# Altium footprint library footprint_hall_crossboard_1_1_library.PcbLib: 95 footprints (part 4 of 7)
Each footprint in its own frame and in the unit in brackets; x right, y up, seen from the top. Pads: shape width x height; smd on the part's side, far side on the other; paste and mask are expansions set on the pad; w line width, h text height; cw(c..) or ccw(c..) is an arc to the next point about the centre after c.
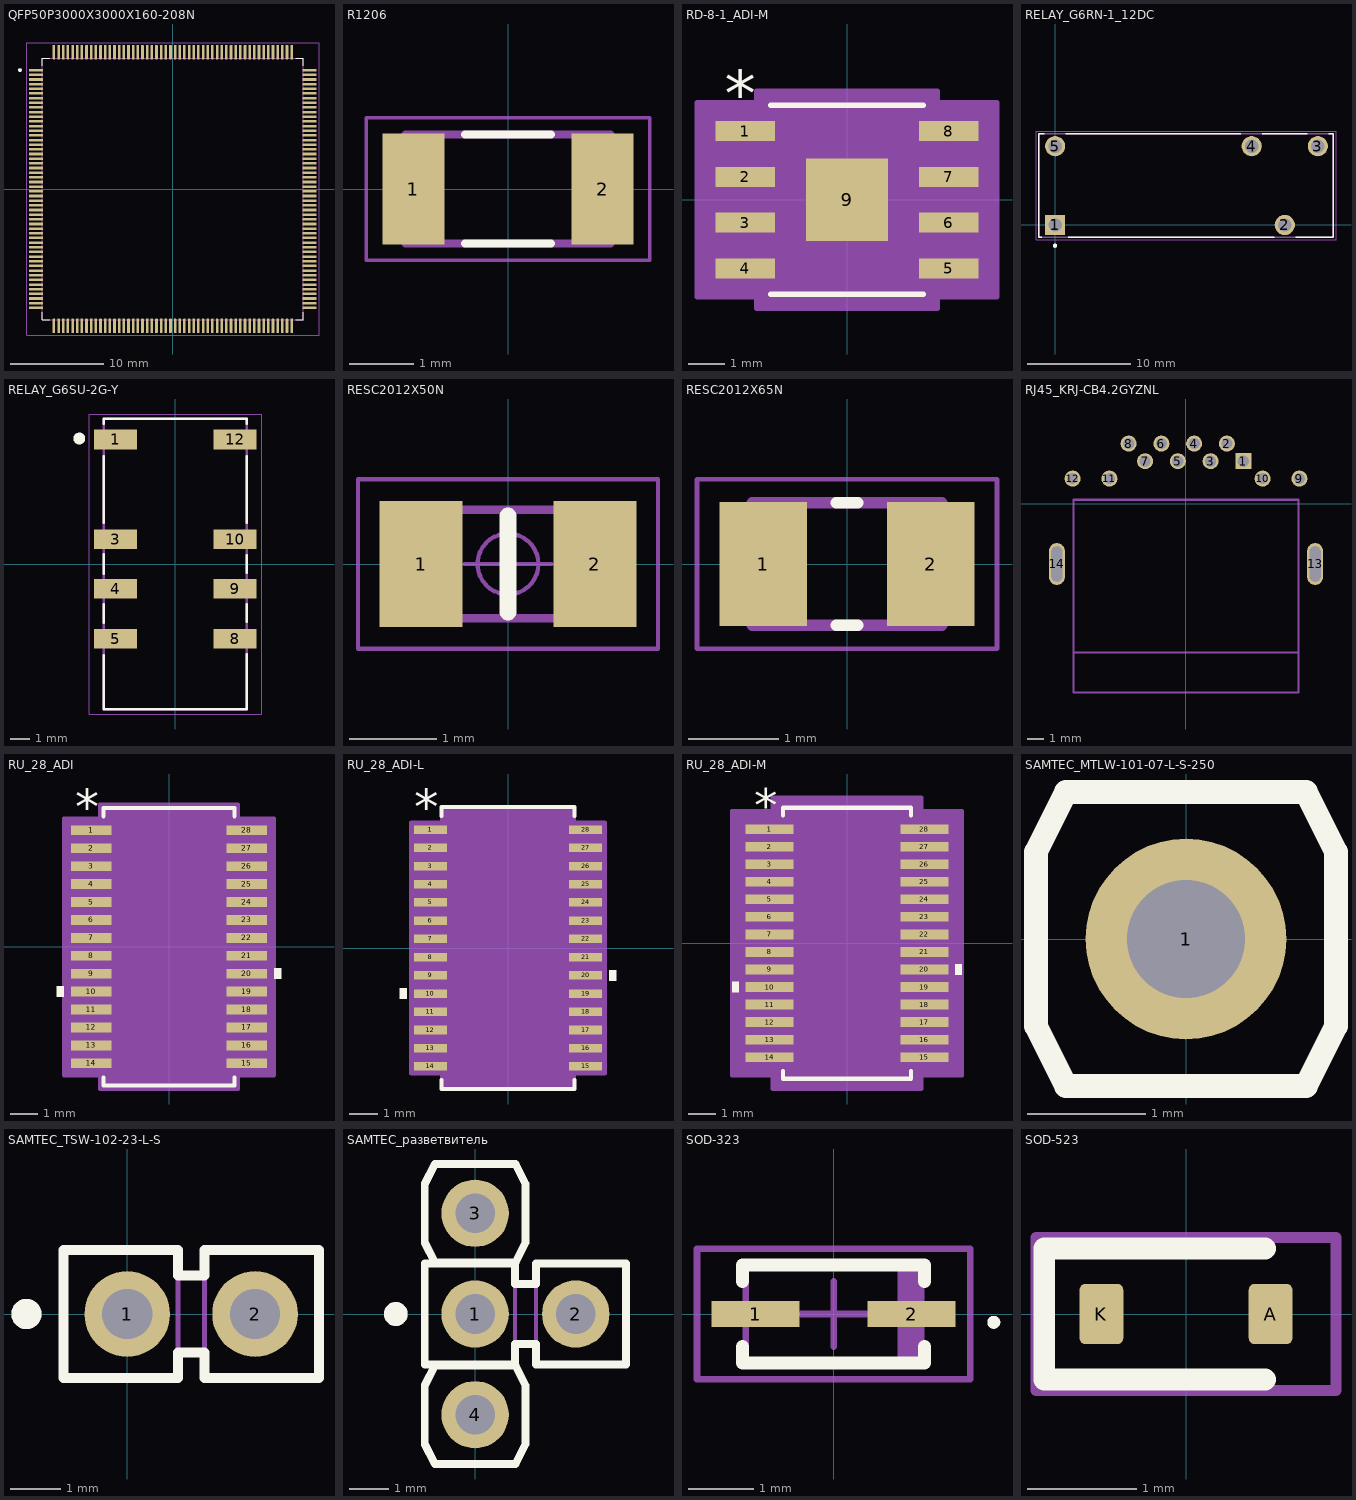
[diagram p3: the footprints below, top view; thin cyan lines are the x and y axes]

## QFP50P3000X3000X160-208N [mm]
pads (208):
  rrect25% 1.52x0.28 smd: 1(-14.675,12.75) 2(-14.675,12.25) 3(-14.675,11.75) 4(-14.675,11.25) 5(-14.675,10.75) 6(-14.675,10.25) 7(-14.675,9.75) 8(-14.675,9.25) 9(-14.675,8.75) 10(-14.675,8.25) 11(-14.675,7.75) 12(-14.675,7.25) 13(-14.675,6.75) 14(-14.675,6.25) 15(-14.675,5.75) 16(-14.675,5.25) 17(-14.675,4.75) 18(-14.675,4.25) 19(-14.675,3.75) 20(-14.675,3.25) 21(-14.675,2.75) 22(-14.675,2.25) 23(-14.675,1.75) 24(-14.675,1.25) 25(-14.675,0.75) 26(-14.675,0.25) 27(-14.675,-0.25) 28(-14.675,-0.75) 29(-14.675,-1.25) 30(-14.675,-1.75) 31(-14.675,-2.25) 32(-14.675,-2.75) 33(-14.675,-3.25) 34(-14.675,-3.75) 35(-14.675,-4.25) 36(-14.675,-4.75) 37(-14.675,-5.25) 38(-14.675,-5.75) 39(-14.675,-6.25) 40(-14.675,-6.75) 41(-14.675,-7.25) 42(-14.675,-7.75) 43(-14.675,-8.25) 44(-14.675,-8.75) 45(-14.675,-9.25) 46(-14.675,-9.75) 47(-14.675,-10.25) 48(-14.675,-10.75) 49(-14.675,-11.25) 50(-14.675,-11.75) 51(-14.675,-12.25) 52(-14.675,-12.75) 105(14.675,-12.75) 106(14.675,-12.25) 107(14.675,-11.75) 108(14.675,-11.25) 109(14.675,-10.75) 110(14.675,-10.25) 111(14.675,-9.75) 112(14.675,-9.25) 113(14.675,-8.75) 114(14.675,-8.25) 115(14.675,-7.75) 116(14.675,-7.25) 117(14.675,-6.75) 118(14.675,-6.25) 119(14.675,-5.75) 120(14.675,-5.25) 121(14.675,-4.75) 122(14.675,-4.25) 123(14.675,-3.75) 124(14.675,-3.25) 125(14.675,-2.75) 126(14.675,-2.25) 127(14.675,-1.75) 128(14.675,-1.25) 129(14.675,-0.75) 130(14.675,-0.25) 131(14.675,0.25) 132(14.675,0.75) 133(14.675,1.25) 134(14.675,1.75) 135(14.675,2.25) 136(14.675,2.75) 137(14.675,3.25) 138(14.675,3.75) 139(14.675,4.25) 140(14.675,4.75) 141(14.675,5.25) 142(14.675,5.75) 143(14.675,6.25) 144(14.675,6.75) 145(14.675,7.25) 146(14.675,7.75) 147(14.675,8.25) 148(14.675,8.75) 149(14.675,9.25) 150(14.675,9.75) 151(14.675,10.25) 152(14.675,10.75) 153(14.675,11.25) 154(14.675,11.75) 155(14.675,12.25) 156(14.675,12.75)
  rrect25% 0.28x1.52 smd: 53(-12.75,-14.675) 54(-12.25,-14.675) 55(-11.75,-14.675) 56(-11.25,-14.675) 57(-10.75,-14.675) 58(-10.25,-14.675) 59(-9.75,-14.675) 60(-9.25,-14.675) 61(-8.75,-14.675) 62(-8.25,-14.675) 63(-7.75,-14.675) 64(-7.25,-14.675) 65(-6.75,-14.675) 66(-6.25,-14.675) 67(-5.75,-14.675) 68(-5.25,-14.675) 69(-4.75,-14.675) 70(-4.25,-14.675) 71(-3.75,-14.675) 72(-3.25,-14.675) 73(-2.75,-14.675) 74(-2.25,-14.675) 75(-1.75,-14.675) 76(-1.25,-14.675) 77(-0.75,-14.675) 78(-0.25,-14.675) 79(0.25,-14.675) 80(0.75,-14.675) 81(1.25,-14.675) 82(1.75,-14.675) 83(2.25,-14.675) 84(2.75,-14.675) 85(3.25,-14.675) 86(3.75,-14.675) 87(4.25,-14.675) 88(4.75,-14.675) 89(5.25,-14.675) 90(5.75,-14.675) 91(6.25,-14.675) 92(6.75,-14.675) 93(7.25,-14.675) 94(7.75,-14.675) 95(8.25,-14.675) 96(8.75,-14.675) 97(9.25,-14.675) 98(9.75,-14.675) 99(10.25,-14.675) 100(10.75,-14.675) 101(11.25,-14.675) 102(11.75,-14.675) 103(12.25,-14.675) 104(12.75,-14.675) 157(12.75,14.675) 158(12.25,14.675) 159(11.75,14.675) 160(11.25,14.675) 161(10.75,14.675) 162(10.25,14.675) 163(9.75,14.675) 164(9.25,14.675) 165(8.75,14.675) 166(8.25,14.675) 167(7.75,14.675) 168(7.25,14.675) 169(6.75,14.675) 170(6.25,14.675) 171(5.75,14.675) 172(5.25,14.675) 173(4.75,14.675) 174(4.25,14.675) 175(3.75,14.675) 176(3.25,14.675) 177(2.75,14.675) 178(2.25,14.675) 179(1.75,14.675) 180(1.25,14.675) 181(0.75,14.675) 182(0.25,14.675) 183(-0.25,14.675) 184(-0.75,14.675) 185(-1.25,14.675) 186(-1.75,14.675) 187(-2.25,14.675) 188(-2.75,14.675) 189(-3.25,14.675) 190(-3.75,14.675) 191(-4.25,14.675) 192(-4.75,14.675) 193(-5.25,14.675) 194(-5.75,14.675) 195(-6.25,14.675) 196(-6.75,14.675) 197(-7.25,14.675) 198(-7.75,14.675) 199(-8.25,14.675) 200(-8.75,14.675) 201(-9.25,14.675) 202(-9.75,14.675) 203(-10.25,14.675) 204(-10.75,14.675) 205(-11.25,14.675) 206(-11.75,14.675) 207(-12.25,14.675) 208(-12.75,14.675)
Top Overlay:
  circle w0.2: c-16.395,12.75 r0.1
  lines w0.127: -14,-13.21 -14,-14 -13.21,-14 ; -14,13.21 -14,14 -13.21,14 ; 13.21,-14 14,-14 14,-13.21 ; 13.21,14 14,14 14,13.21
Mechanical 13:
  circle w0.2: c-16.395,12.75 r0.1
  lines w0.127: -14,-14 -14,14 14,14 14,-14 -14,-14
Mechanical 15:
  lines w0.05: -15.685,-15.685 -15.685,15.685 15.685,15.685 15.685,-15.685 -15.685,-15.685
3D body "step_temp.STEP": height 1.6, standoff 0, extent -15,-15 15,15

## R1206 [mm]
pads (2):
  rect 0.97x1.73 smd: 1(-1.48,0) 2(1.48,0)
Top Overlay:
  lines w0.127: -0.67,-0.85 0.67,-0.85 ; -0.67,0.85 0.67,0.85
Mechanical 13:
  lines w0.127: -1.6,-0.85 1.6,-0.85 1.6,0.85 -1.6,0.85 -1.6,-0.85
Mechanical 15:
  lines w0.05: -2.215,-1.115 2.215,-1.115 2.215,1.115 -2.215,1.115 -2.215,-1.115
3D body "step_temp.STEP": height 0.75, standoff 0, extent -1.55,-0.8 1.55,0.8

## RD-8-1_ADI-M [mil]
pads (9):
  rect 65.5x22 smd paste+0 mask+0: 1(-111.25,75) 2(-111.25,25) 3(-111.25,-25) 4(-111.25,-75) 5(111.25,-75) 6(111.25,-25) 7(111.25,25) 8(111.25,75)
  rect 90x90 smd paste+0 mask+0: 9(0,0)
Top Overlay:
  lines w6: -83.5,-103.5 83.5,-103.5 ; -83.5,103.5 83.5,103.5
  text "*" at -133.75,92 h50
Mechanical 13:
  lines w0: -12,98.5 ccw(c0,98.5) 12,98.5
  lines w1: -122,-85 -122,-65 -78.5,-65 -78.5,-85 -122,-85 ; -122,-35 -122,-15 -78.5,-15 -78.5,-35 -122,-35 ; -122,15 -122,35 -78.5,35 -78.5,15 -122,15 ; -122,65 -122,85 -78.5,85 -78.5,65 -122,65 ; -78.5,-98.5 78.5,-98.5 78.5,98.5 -78.5,98.5 -78.5,-98.5 ; 78.5,-85 78.5,-65 122,-65 122,-85 78.5,-85 ; 78.5,-35 78.5,-15 122,-15 122,-35 78.5,-35 ; 78.5,15 78.5,35 122,35 122,15 78.5,15 ; 78.5,65 78.5,85 122,85 122,65 78.5,65
  text "*" at -76,45.5 h50
Mechanical 15:
  region: -98.5,-106 -164,-106 -164,106 -98.5,106 -98.5,118.5 98.5,118.5 98.5,106 164,106 164,-106 98.5,-106 98.5,-118.5 -98.5,-118.5
  lines w6: -164,-106 -164,106 -98.5,106 -98.5,118.5 98.5,118.5 98.5,106 164,106 164,-106 98.5,-106 98.5,-118.5 -98.5,-118.5 -98.5,-106 -164,-106
3D body "RD-8-1_ADI.step": height 69.09, standoff 0, extent -122.01,-98.5 122.01,98.5

## RELAY_G6RN-1_12DC [mm]
pads (5):
  rect 1.95x1.95 hole 1.3: 1(0,0)
  round 1.95 hole 1.3: 2(22.2,0) 3(25.4,7.62) 4(19,7.62) 5(0,7.62)
Top Overlay:
  circle w0.2: c0,-2 r0.1
  lines w0.127: -1.288,-1.19 -1.6,-1.19 -1.6,8.81 -1.038,8.81 ; 1.038,8.81 17.962,8.81 ; 1.288,-1.19 21.161,-1.19 ; 20.038,8.81 24.362,8.81 ; 23.239,-1.19 26.9,-1.19 26.9,8.81 26.438,8.81
Mechanical 13:
  circle w0.2: c0,-2 r0.1
  lines w0.127: -1.6,-1.19 26.9,-1.19 26.9,8.81 -1.6,8.81 -1.6,-1.19
Mechanical 15:
  lines w0.05: -1.85,-1.44 27.15,-1.44 27.15,9.06 -1.85,9.06 -1.85,-1.44

## RELAY_G6SU-2G-Y [mm]
pads (8):
  rect 2.2x1 smd: 1(-3.05,6.35) 3(-3.05,1.27) 4(-3.05,-1.27) 5(-3.05,-3.81) 8(3.05,-3.81) 9(3.05,-1.27) 10(3.05,1.27) 12(3.05,6.35)
Top Overlay:
  circle w0.3: c-4.9,6.4 r0.15
  lines w0.127: -3.65,-4.65 -3.65,-7.4 3.65,-7.4 3.65,-4.6 ; -3.65,-3 -3.65,-2.05 ; -3.65,-0.5 -3.65,0.5 ; -3.65,2.1 -3.65,5.5 ; -3.65,7.15 -3.65,7.4 3.65,7.4 3.65,7.15 ; 3.65,-2.95 3.65,-2.05 ; 3.65,-0.45 3.65,0.45 ; 3.65,2.1 3.65,5.5
Mechanical 13:
  circle w0.3: c-2.667,6.35 r0.15
  lines w0.127: -3.65,-7.4 3.65,-7.4 3.65,7.4 -3.65,7.4 -3.65,-7.4
Mechanical 15:
  lines w0.05: -4.4,-7.65 4.4,-7.65 4.4,7.65 -4.4,7.65 -4.4,-7.65

## RESC2012X50N [mm] "Chip Resistor, EIA 0805, Metric 2012, Body 2.0x1.25mm, IPC Medium Density"
height 0.5
pads (2):
  rect 0.95x1.45 smd: 1(-1,0) 2(1,0)
Top Overlay:
  lines w0.2: 0,-0.55 0,0.55
Mechanical 14:
  lines w0.1: -1.025,-0.625 -1.025,0.625 1.025,0.625 1.025,-0.625 -1.025,-0.625
Mechanical 15:
  circle w0.05: c0,0 r0.35
  lines w0.05: -0.5,0 0.5,0 ; 0,-0.5 0,0.5 ; -1.725,-0.975 -1.725,0.975 1.725,0.975 1.725,-0.975 -1.725,-0.975
3D body "RESC2012X50N.stp": height 0.5, standoff 0, extent -1.1,-0.675 1.1,0.675

## RESC2012X65N [mm]
pads (2):
  rect 0.97x1.38 smd: 1(-0.93,0) 2(0.93,0)
Top Overlay:
  lines w0.127: -0.12,-0.68 0.12,-0.68 ; -0.12,0.68 0.12,0.68
Mechanical 13:
  lines w0.127: -1.05,-0.68 1.05,-0.68 1.05,0.68 -1.05,0.68 -1.05,-0.68
Mechanical 15:
  lines w0.05: -1.665,-0.94 1.665,-0.94 1.665,0.94 -1.665,0.94 -1.665,-0.94

## RJ45_KRJ-CB4.2GYZNL [mm] "RJ45  connector, right angle"
height 1
pads (14):
  rect 1x1 hole 0.7: 1(3.57,2.65)
  round 1 hole 0.7: 2(2.55,3.75) 3(1.53,2.65) 4(0.51,3.75) 5(-0.51,2.65) 6(-1.53,3.75) 7(-2.55,2.65) 8(-3.57,3.75) 9(7.06,1.57) 10(4.77,1.57) 11(-4.77,1.57) 12(-7.06,1.57)
  oval 1x2.6 hole 0.7 slot 2.2 at 90 deg: 13(8.04,-3.75) 14(-8.04,-3.75)
Mechanical 1:
  lines w0.127: -7,-9.25 7,-9.25 ; -7,-11.75 -7,0.25 7,0.25 7,-11.75 -7,-11.75
3D body: height 4.2, standoff -4.2, extent -7,-9.25 7,0.25
3D body: height 6.8, standoff 0, extent -8.103,-9.25 8.077,3.465
3D body: height 6.8, standoff -4.2, extent -8.103,-11.75 8.077,-9.25

## RU_28_ADI [mil]
pads (28):
  rect 58x14 smd paste+0 mask+0: 1(-111,166.34) 2(-111,140.75) 3(-111,115.16) 4(-111,89.57) 5(-111,63.98) 6(-111,38.39) 7(-111,12.8) 8(-111,-12.8) 9(-111,-38.39) 10(-111,-63.98) 11(-111,-89.57) 12(-111,-115.16) 13(-111,-140.75) 14(-111,-166.34) 15(111,-166.34) 16(111,-140.75) 17(111,-115.16) 18(111,-89.57) 19(111,-63.98) 20(111,-38.39) 21(111,-12.8) 22(111,12.8) 23(111,38.39) 24(111,63.98) 25(111,89.57) 26(111,115.16) 27(111,140.75) 28(111,166.34)
Top Overlay:
  region: -150,-56.48 -160,-56.48 -160,-71.48 -150,-71.48
  region: 150,-30.89 160,-30.89 160,-45.89 150,-45.89
  lines w6: -93.5,-186.44 -93.5,-198 93.5,-198 93.5,-186.44 ; -93.5,186.44 -93.5,198 93.5,198 93.5,186.44
  text "*" at -133.5,175.34 h50
Mechanical 13:
  lines w0: -12,193 ccw(c0,193) 12,193
  lines w1: -126,-172.34 -126,-160.34 -88.5,-160.34 -88.5,-172.34 -126,-172.34 ; -126,-146.75 -126,-134.75 -88.5,-134.75 -88.5,-146.75 -126,-146.75 ; -126,-121.16 -126,-109.16 -88.5,-109.16 -88.5,-121.16 -126,-121.16 ; -126,-95.57 -126,-83.57 -88.5,-83.57 -88.5,-95.57 -126,-95.57 ; -126,-69.98 -126,-57.98 -88.5,-57.98 -88.5,-69.98 -126,-69.98 ; -126,-44.39 -126,-32.39 -88.5,-32.39 -88.5,-44.39 -126,-44.39 ; -126,-18.8 -126,-6.8 -88.5,-6.8 -88.5,-18.8 -126,-18.8 ; -126,6.8 -126,18.8 -88.5,18.8 -88.5,6.8 -126,6.8 ; -126,32.39 -126,44.39 -88.5,44.39 -88.5,32.39 -126,32.39 ; -126,57.98 -126,69.98 -88.5,69.98 -88.5,57.98 -126,57.98 ; -126,83.57 -126,95.57 -88.5,95.57 -88.5,83.57 -126,83.57 ; -126,109.16 -126,121.16 -88.5,121.16 -88.5,109.16 -126,109.16 ; -126,134.75 -126,146.75 -88.5,146.75 -88.5,134.75 -126,134.75 ; -126,160.34 -126,172.34 -88.5,172.34 -88.5,160.34 -126,160.34 ; -88.5,-193 88.5,-193 88.5,193 -88.5,193 -88.5,-193 ; 88.5,-172.34 88.5,-160.34 126,-160.34 126,-172.34 88.5,-172.34 ; 88.5,-146.75 88.5,-134.75 126,-134.75 126,-146.75 88.5,-146.75 ; 88.5,-121.16 88.5,-109.16 126,-109.16 126,-121.16 88.5,-121.16 ; 88.5,-95.57 88.5,-83.57 126,-83.57 126,-95.57 88.5,-95.57 ; 88.5,-69.98 88.5,-57.98 126,-57.98 126,-69.98 88.5,-69.98 ; 88.5,-44.39 88.5,-32.39 126,-32.39 126,-44.39 88.5,-44.39 ; 88.5,-18.8 88.5,-6.8 126,-6.8 126,-18.8 88.5,-18.8 ; 88.5,6.8 88.5,18.8 126,18.8 126,6.8 88.5,6.8 ; 88.5,32.39 88.5,44.39 126,44.39 126,32.39 88.5,32.39 ; 88.5,57.98 88.5,69.98 126,69.98 126,57.98 88.5,57.98 ; 88.5,83.57 88.5,95.57 126,95.57 126,83.57 88.5,83.57 ; 88.5,109.16 88.5,121.16 126,121.16 126,109.16 88.5,109.16 ; 88.5,134.75 88.5,146.75 126,146.75 126,134.75 88.5,134.75 ; 88.5,160.34 88.5,172.34 126,172.34 126,160.34 88.5,160.34
  text "*" at -86,140 h50
Mechanical 15:
  region: -98.5,-183.34 -150,-183.34 -150,183.34 -98.5,183.34 -98.5,203 98.5,203 98.5,183.34 150,183.34 150,-183.34 98.5,-183.34 98.5,-203 -98.5,-203
  lines w6: -150,-183.34 -150,183.34 -98.5,183.34 -98.5,203 98.5,203 98.5,183.34 150,183.34 150,-183.34 98.5,-183.34 98.5,-203 -98.5,-203 -98.5,-183.34 -150,-183.34
3D body "RU_28_ADI.step": height 47.09, standoff 0, extent -125.98,-192.99 125.98,192.99

## RU_28_ADI-L [mil]
pads (28):
  rect 46x12 smd paste+0 mask+0: 1(-109,166.34) 2(-109,140.75) 3(-109,115.16) 4(-109,89.57) 5(-109,63.98) 6(-109,38.39) 7(-109,12.8) 8(-109,-12.8) 9(-109,-38.39) 10(-109,-63.98) 11(-109,-89.57) 12(-109,-115.16) 13(-109,-140.75) 14(-109,-166.34) 15(109,-166.34) 16(109,-140.75) 17(109,-115.16) 18(109,-89.57) 19(109,-63.98) 20(109,-38.39) 21(109,-12.8) 22(109,12.8) 23(109,38.39) 24(109,63.98) 25(109,89.57) 26(109,115.16) 27(109,140.75) 28(109,166.34)
Top Overlay:
  region: 142,-30.89 152,-30.89 152,-45.89 142,-45.89
  region: -142,-56.48 -152,-56.48 -152,-71.48 -142,-71.48
  lines w6: -93.5,-185.44 -93.5,-198 93.5,-198 93.5,-185.44 ; -93.5,185.44 -93.5,198 93.5,198 93.5,185.44
  text "*" at -131.5,173.34 h50
Mechanical 13:
  lines w0: -12,193 ccw(c0,193) 12,193
  lines w1: -126,-172.34 -88.5,-172.34 -88.5,-160.34 -126,-160.34 -126,-172.34 ; -126,-146.75 -88.5,-146.75 -88.5,-134.75 -126,-134.75 -126,-146.75 ; -126,-121.16 -88.5,-121.16 -88.5,-109.16 -126,-109.16 -126,-121.16 ; -126,-95.57 -88.5,-95.57 -88.5,-83.57 -126,-83.57 -126,-95.57 ; -126,-69.98 -88.5,-69.98 -88.5,-57.98 -126,-57.98 -126,-69.98 ; -126,-44.39 -88.5,-44.39 -88.5,-32.39 -126,-32.39 -126,-44.39 ; -126,-18.8 -88.5,-18.8 -88.5,-6.8 -126,-6.8 -126,-18.8 ; -126,6.8 -88.5,6.8 -88.5,18.8 -126,18.8 -126,6.8 ; -126,32.39 -88.5,32.39 -88.5,44.39 -126,44.39 -126,32.39 ; -126,57.98 -88.5,57.98 -88.5,69.98 -126,69.98 -126,57.98 ; -126,83.57 -88.5,83.57 -88.5,95.57 -126,95.57 -126,83.57 ; -126,109.16 -88.5,109.16 -88.5,121.16 -126,121.16 -126,109.16 ; -126,134.75 -88.5,134.75 -88.5,146.75 -126,146.75 -126,134.75 ; -126,160.34 -88.5,160.34 -88.5,172.34 -126,172.34 -126,160.34 ; -88.5,-193 -88.5,193 88.5,193 88.5,-193 -88.5,-193 ; 88.5,-172.34 126,-172.34 126,-160.34 88.5,-160.34 88.5,-172.34 ; 88.5,-146.75 126,-146.75 126,-134.75 88.5,-134.75 88.5,-146.75 ; 88.5,-121.16 126,-121.16 126,-109.16 88.5,-109.16 88.5,-121.16 ; 88.5,-95.57 126,-95.57 126,-83.57 88.5,-83.57 88.5,-95.57 ; 88.5,-69.98 126,-69.98 126,-57.98 88.5,-57.98 88.5,-69.98 ; 88.5,-44.39 126,-44.39 126,-32.39 88.5,-32.39 88.5,-44.39 ; 88.5,-18.8 126,-18.8 126,-6.8 88.5,-6.8 88.5,-18.8 ; 88.5,6.8 126,6.8 126,18.8 88.5,18.8 88.5,6.8 ; 88.5,32.39 126,32.39 126,44.39 88.5,44.39 88.5,32.39 ; 88.5,57.98 126,57.98 126,69.98 88.5,69.98 88.5,57.98 ; 88.5,83.57 126,83.57 126,95.57 88.5,95.57 88.5,83.57 ; 88.5,109.16 126,109.16 126,121.16 88.5,121.16 88.5,109.16 ; 88.5,134.75 126,134.75 126,146.75 88.5,146.75 88.5,134.75 ; 88.5,160.34 126,160.34 126,172.34 88.5,172.34 88.5,160.34
  text "*" at -86,140 h50
Mechanical 15:
  region: -92.5,-176.34 -136,-176.34 -136,176.34 -92.5,176.34 -92.5,197 92.5,197 92.5,176.34 136,176.34 136,-176.34 92.5,-176.34 92.5,-197 -92.5,-197
  lines w6: -136,-176.34 -92.5,-176.34 -92.5,-197 92.5,-197 92.5,-176.34 136,-176.34 136,176.34 92.5,176.34 92.5,197 -92.5,197 -92.5,176.34 -136,176.34 -136,-176.34
3D body "RU_28_ADI.step": height 47.09, standoff 0, extent -125.98,-192.99 125.98,192.99

## RU_28_ADI-M [mil]
pads (28):
  rect 70x14 smd paste+0 mask+0: 1(-113,166.34) 2(-113,140.75) 3(-113,115.16) 4(-113,89.57) 5(-113,63.98) 6(-113,38.39) 7(-113,12.8) 8(-113,-12.8) 9(-113,-38.39) 10(-113,-63.98) 11(-113,-89.57) 12(-113,-115.16) 13(-113,-140.75) 14(-113,-166.34) 15(113,-166.34) 16(113,-140.75) 17(113,-115.16) 18(113,-89.57) 19(113,-63.98) 20(113,-38.39) 21(113,-12.8) 22(113,12.8) 23(113,38.39) 24(113,63.98) 25(113,89.57) 26(113,115.16) 27(113,140.75) 28(113,166.34)
Top Overlay:
  region: 158,-30.89 168,-30.89 168,-45.89 158,-45.89
  region: -158,-56.48 -168,-56.48 -168,-71.48 -158,-71.48
  lines w6: -93.5,-186.44 -93.5,-198 93.5,-198 93.5,-186.44 ; -93.5,186.44 -93.5,198 93.5,198 93.5,186.44
  text "*" at -135.5,175.34 h50
Mechanical 13:
  lines w0: -12,193 ccw(c0,193) 12,193
  lines w1: -126,-172.34 -88.5,-172.34 -88.5,-160.34 -126,-160.34 -126,-172.34 ; -126,-146.75 -88.5,-146.75 -88.5,-134.75 -126,-134.75 -126,-146.75 ; -126,-121.16 -88.5,-121.16 -88.5,-109.16 -126,-109.16 -126,-121.16 ; -126,-95.57 -88.5,-95.57 -88.5,-83.57 -126,-83.57 -126,-95.57 ; -126,-69.98 -88.5,-69.98 -88.5,-57.98 -126,-57.98 -126,-69.98 ; -126,-44.39 -88.5,-44.39 -88.5,-32.39 -126,-32.39 -126,-44.39 ; -126,-18.8 -88.5,-18.8 -88.5,-6.8 -126,-6.8 -126,-18.8 ; -126,6.8 -88.5,6.8 -88.5,18.8 -126,18.8 -126,6.8 ; -126,32.39 -88.5,32.39 -88.5,44.39 -126,44.39 -126,32.39 ; -126,57.98 -88.5,57.98 -88.5,69.98 -126,69.98 -126,57.98 ; -126,83.57 -88.5,83.57 -88.5,95.57 -126,95.57 -126,83.57 ; -126,109.16 -88.5,109.16 -88.5,121.16 -126,121.16 -126,109.16 ; -126,134.75 -88.5,134.75 -88.5,146.75 -126,146.75 -126,134.75 ; -126,160.34 -88.5,160.34 -88.5,172.34 -126,172.34 -126,160.34 ; -88.5,-193 -88.5,193 88.5,193 88.5,-193 -88.5,-193 ; 88.5,-172.34 126,-172.34 126,-160.34 88.5,-160.34 88.5,-172.34 ; 88.5,-146.75 126,-146.75 126,-134.75 88.5,-134.75 88.5,-146.75 ; 88.5,-121.16 126,-121.16 126,-109.16 88.5,-109.16 88.5,-121.16 ; 88.5,-95.57 126,-95.57 126,-83.57 88.5,-83.57 88.5,-95.57 ; 88.5,-69.98 126,-69.98 126,-57.98 88.5,-57.98 88.5,-69.98 ; 88.5,-44.39 126,-44.39 126,-32.39 88.5,-32.39 88.5,-44.39 ; 88.5,-18.8 126,-18.8 126,-6.8 88.5,-6.8 88.5,-18.8 ; 88.5,6.8 126,6.8 126,18.8 88.5,18.8 88.5,6.8 ; 88.5,32.39 126,32.39 126,44.39 88.5,44.39 88.5,32.39 ; 88.5,57.98 126,57.98 126,69.98 88.5,69.98 88.5,57.98 ; 88.5,83.57 126,83.57 126,95.57 88.5,95.57 88.5,83.57 ; 88.5,109.16 126,109.16 126,121.16 88.5,121.16 88.5,109.16 ; 88.5,134.75 126,134.75 126,146.75 88.5,146.75 88.5,134.75 ; 88.5,160.34 126,160.34 126,172.34 88.5,172.34 88.5,160.34
  text "*" at -86,140 h50
Mechanical 15:
  region: -108.5,-193.34 -168,-193.34 -168,193.34 -108.5,193.34 -108.5,213 108.5,213 108.5,193.34 168,193.34 168,-193.34 108.5,-193.34 108.5,-213 -108.5,-213
  lines w6: -168,-193.34 -108.5,-193.34 -108.5,-213 108.5,-213 108.5,-193.34 168,-193.34 168,193.34 108.5,193.34 108.5,213 -108.5,213 -108.5,193.34 -168,193.34 -168,-193.34
3D body "RU_28_ADI.step": height 47.09, standoff 0, extent -125.98,-192.99 125.98,192.99

## SAMTEC_MTLW-101-07-L-S-250 [mm] "1 Contacts - Pitch 2.54mm - Single Row Through Mount Straight Header (Post Lead = 6.35mm, Tail Lead 3.05mm, Insulator 1.52mm)"
height 7.87
pads (1):
  round 1.7 hole 1: 1(0,0)
Top Overlay:
  lines w0.2: -1.27,-0.737 -1.27,0.737 -1.016,1.245 1.016,1.245 1.27,0.737 1.27,-0.737 1.016,-1.245 -1.016,-1.245 -1.27,-0.737
Mechanical 8:
  lines w0.1: -0.5,0 0,0 ; 0,-0.5 0,0 ; 0,0.5 0,0 ; 0.5,0 0,0
Mechanical 14:
  lines w0.1: -1.27,-0.737 -1.27,0.737 -1.016,1.245 1.016,1.245 1.27,0.737 1.27,-0.737 1.016,-1.245 -1.016,-1.245 -1.27,-0.737 ; -0.318,-0.318 -0.318,0.318 0.318,0.318 0.318,-0.318 -0.318,-0.318
3D body "SAMTEC_MTLW-101-07-L-S-250.stp": height 7.87, standoff -3.05, extent -1.27,-1.244 1.27,1.245

## SAMTEC_TSW-102-23-L-S [mm] "2 Contacts - Pitch 2.54mm - Single Row  Through Mount Straigh Header (Post Lead 5.84mm, Tail Lead 2.92mm, Insulator 2.54mm)"
height 8.38
pads (2):
  round 1.7 hole 1: 1(0,0) 2(2.54,0)
Top Overlay:
  circle w0.3: c-2,0 r0.15
  lines w0.2: -1.27,-1.27 1.007,-1.27 1.007,-0.762 1.533,-0.762 1.533,-1.27 3.81,-1.27 3.81,1.27 1.533,1.27 1.533,0.762 1.007,0.762 1.007,1.27 -1.27,1.27 -1.27,-1.27
Mechanical 8:
  lines w0.1: -0.5,0 0,0 ; 0,-0.5 0,0 ; 0,0.5 0,0 ; 0.5,0 0,0 ; 2.04,0 2.54,0 ; 2.54,-0.5 2.54,0 ; 2.54,0.5 2.54,0 ; 3.04,0 2.54,0
Mechanical 14:
  circle w0.3: c-2,0 r0.15
  lines w0.1: 1.007,-0.762 1.533,-0.762 ; 1.007,0.762 1.533,0.762 ; -1.27,-1.27 1.007,-1.27 1.007,1.27 -1.27,1.27 -1.27,-1.27 ; -0.317,-0.318 0.318,-0.318 0.317,0.317 -0.317,0.317 -0.317,-0.318 ; 1.533,-1.27 3.81,-1.27 3.81,1.27 1.533,1.27 1.533,-1.27 ; 2.223,-0.318 2.858,-0.318 2.858,0.317 2.223,0.317 2.223,-0.318
3D body "SAMTEC_TSW-102-23-L-S.stp": height 8.38, standoff -2.92, extent -1.27,-1.27 3.81,1.27

## SAMTEC_разветвитель [mm] "2 Contacts - Pitch 2.54mm - Single Row  Through Mount Straigh Header (Post Lead 5.84mm, Tail Lead 2.92mm, Insulator 2.54mm)"
height 8.38
pads (4):
  round 1.7 hole 1: 1(0,0) 2(2.54,0) 3(0,2.54) 4(0,-2.54)
Top Overlay:
  circle w0.3: c-2,0 r0.15
  lines w0.2: -1.27,-3.277 -1.27,-1.803 -1.016,-1.295 1.016,-1.295 1.27,-1.803 1.27,-3.277 1.016,-3.785 -1.016,-3.785 -1.27,-3.277 ; -1.27,-1.27 1.007,-1.27 1.007,-0.762 1.533,-0.762 1.533,-1.27 3.81,-1.27 3.81,1.27 1.533,1.27 1.533,0.762 1.007,0.762 1.007,1.27 -1.27,1.27 -1.27,-1.27 ; -1.27,1.803 -1.27,3.277 -1.016,3.785 1.016,3.785 1.27,3.277 1.27,1.803 1.016,1.295 -1.016,1.295 -1.27,1.803
Mechanical 8:
  lines w0.1: -0.5,-2.54 0,-2.54 ; -0.5,0 0,0 ; -0.5,2.54 0,2.54 ; 0,-3.04 0,-2.54 ; 0,-2.04 0,-2.54 ; 0,-0.5 0,0 ; 0,0.5 0,0 ; 0,2.04 0,2.54 ; 0,3.04 0,2.54 ; 0.5,-2.54 0,-2.54 ; 0.5,0 0,0 ; 0.5,2.54 0,2.54 ; 2.04,0 2.54,0 ; 2.54,-0.5 2.54,0 ; 2.54,0.5 2.54,0 ; 3.04,0 2.54,0
Mechanical 14:
  circle w0.3: c-2,0 r0.15
  lines w0.1: 1.007,-0.762 1.533,-0.762 ; 1.007,0.762 1.533,0.762 ; -1.27,-3.277 -1.27,-1.803 -1.016,-1.295 1.016,-1.295 1.27,-1.803 1.27,-3.277 1.016,-3.785 -1.016,-3.785 -1.27,-3.277 ; -1.27,-1.27 1.007,-1.27 1.007,1.27 -1.27,1.27 -1.27,-1.27 ; -1.27,1.803 -1.27,3.277 -1.016,3.785 1.016,3.785 1.27,3.277 1.27,1.803 1.016,1.295 -1.016,1.295 -1.27,1.803 ; -0.318,-2.857 -0.318,-2.222 0.318,-2.222 0.318,-2.857 -0.318,-2.857 ; -0.317,-0.318 0.318,-0.318 0.317,0.317 -0.317,0.317 -0.317,-0.318 ; -0.318,2.222 -0.318,2.857 0.318,2.857 0.318,2.222 -0.318,2.222 ; 1.533,-1.27 3.81,-1.27 3.81,1.27 1.533,1.27 1.533,-1.27 ; 2.223,-0.318 2.858,-0.318 2.858,0.317 2.223,0.317 2.223,-0.318
3D body "SAMTEC_TSW-102-23-L-S.stp": height 8.38, standoff -2.92, extent -1.27,-1.27 3.81,1.27
3D body "SAMTEC_MTLW-101-07-L-S-250.stp": height 7.87, standoff -3.05, extent -1.27,-3.784 1.27,-1.295
3D body "SAMTEC_MTLW-101-07-L-S-250.stp": height 7.87, standoff -3.05, extent -1.27,1.296 1.27,3.785

## SOD-323 [mm] "Diode"
height 1
pads (2):
  rect 1.35x0.4 smd: 1(-1.2,0) 2(1.2,0)
Top Overlay:
  circle w0.1: c2.463,-0.127 r0.05
  lines w0.2: -1.4,-0.5 -1.4,-0.75 1.4,-0.75 1.4,-0.5 ; -1.4,0.5 -1.4,0.75 1.4,0.75 1.4,0.5
Mechanical 13:
  region: 1.35,0.724 0.986,0.724 0.986,-0.726 1.35,-0.726
  lines w0.1: -1.35,-0.725 -1.35,0.725 1.35,0.725 1.35,-0.725 -1.35,-0.725
Mechanical 15:
  lines w0.1: -0.5,0 0.5,0 ; 0,-0.5 0,0.5 ; -2.1,-1 -2.1,1 2.1,1 2.1,-1 -2.1,-1
3D body: height 1.17, standoff 0, extent -1.35,-0.725 1.35,0.725

## SOD-523 [mm] "SMD"
pads (2):
  rrect25% 0.4x0.55 smd: A(0.775,0) K(-0.775,0)
Top Overlay:
  lines w0.2: 0.725,-0.6 -1.3,-0.6 -1.3,0.6 0.725,0.6
Mechanical 15:
  lines w0.1: -1.375,-0.7 -1.375,0.7 1.375,0.7 1.375,-0.7 -1.375,-0.7
3D body "p38_SOD-523.stp": height 0.7, standoff 0, extent -0.85,-0.425 0.85,0.425